# Altium schematic symbol library SCH - PASSIVES - INDUCTOR.SCHLIB: 1 symbol
Pins are listed as number, name and electrical type; pins without a type are passive.

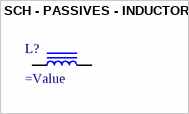
[diagram p0: symbol SCH - PASSIVES - INDUCTOR]

## SCH - PASSIVES - INDUCTOR
designator L?
SMT Inductor
pins: 1, 2